# Altium footprint library TSOT-5.PcbLib: 1 footprints
Each footprint in its own frame and in the unit in brackets; x right, y up, seen from the top. Pads: shape width x height; smd on the part's side, far side on the other; paste and mask are expansions set on the pad; w line width, h text height; cw(c..) or ccw(c..) is an arc to the next point about the centre after c.
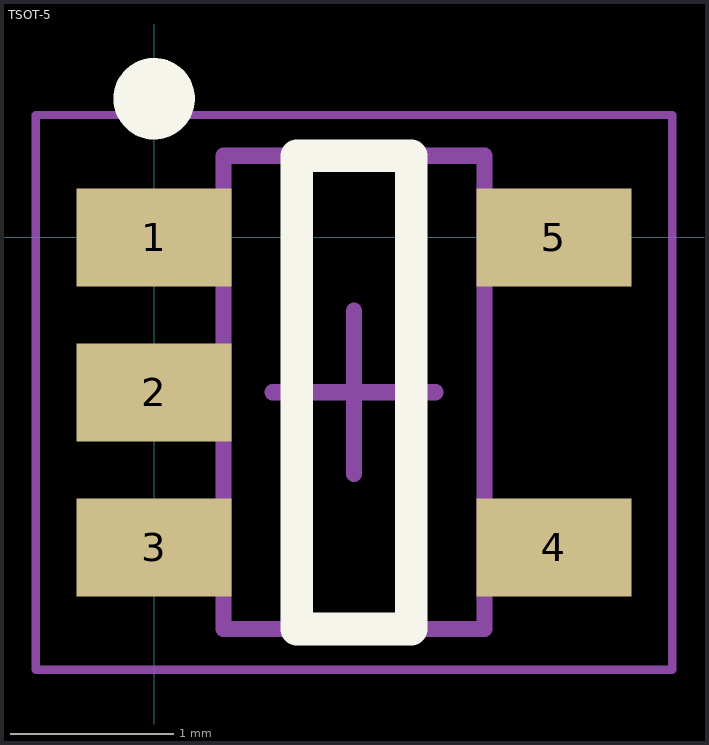
[diagram p0: the footprint, top view; thin cyan lines are the x and y axes]

## TSOT-5 [mm]
pads (5):
  rect 0.95x0.6 smd: 1(0,0) 2(0,-0.95) 3(0,-1.9) 4(2.45,-1.9) 5(2.45,0)
Top Overlay:
  circle w0.25: c0,0.85 r0.125
  lines w0.2: 0.875,-2.4 1.575,-2.4 1.575,0.5 0.875,0.5 0.875,-2.4
Mechanical 13:
  lines w0.1: 0.425,-2.4 0.425,0.5 2.025,0.5 2.025,-2.4 0.425,-2.4
Mechanical 15:
  lines w0.05: -0.725,-2.65 -0.725,0.75 3.175,0.75 3.175,-2.65 -0.725,-2.65
  lines w0.1: 0.725,-0.95 1.725,-0.95 ; 1.225,-1.45 1.225,-0.45
3D body "TSOP-5.STEP": height 1.1, standoff 0, extent -0.275,-2.5 2.725,0.6